# EAGLE library part ADM213ARS (library DSDEagleLibrary)
RS232 to TTL level converter
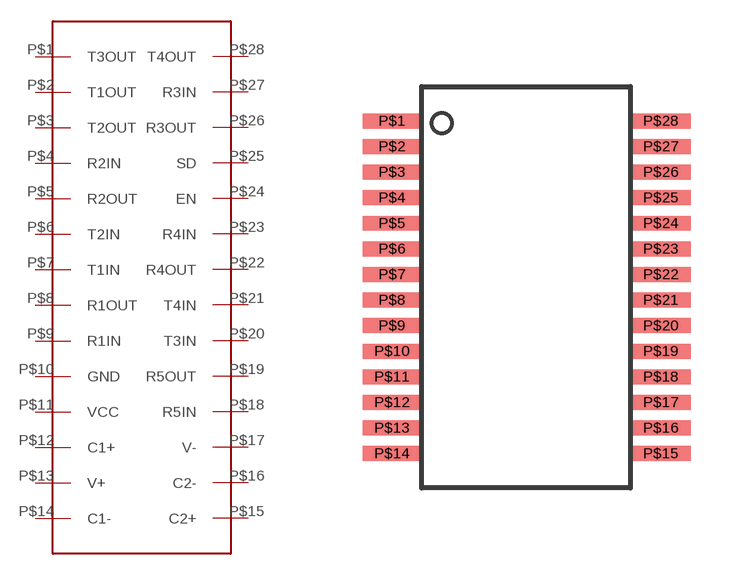
[diagram p62: symbol with the pads of SSOP-28-LD; footprint SSOP-28-LD]

Designator prefix U

## ADM213ARS  [SSOP-28-LD]
P$1  T3OUT
P$2  T1OUT
P$3  T2OUT
P$4  R2IN
P$5  R2OUT
P$6  T2IN
P$7  T1IN
P$8  R1OUT
P$9  R1IN
P$10  GND
P$11  VCC
P$12  C1+
P$13  V+
P$14  C1-
P$15  C2+
P$16  C2-
P$17  V-
P$18  R5IN
P$19  R5OUT
P$20  T3IN
P$21  T4IN
P$22  R4OUT
P$23  R4IN
P$24  EN
P$25  SD
P$26  R3OUT
P$27  R3IN
P$28  T4OUT

## Footprint SSOP-28-LD (pad centres in mm)
smd 1.5 x 0.38: P$1 -0.75,9.325; P$2 -0.75,8.675; P$3 -0.75,8.025; P$4 -0.75,7.375; P$5 -0.75,6.725; P$6 -0.75,6.075; P$7 -0.75,5.425; P$8 -0.75,4.775; P$9 -0.75,4.125; P$10 -0.75,3.475; P$11 -0.75,2.825; P$12 -0.75,2.175; P$13 -0.75,1.525; P$14 -0.75,0.875; P$15 6.075,0.875; P$16 6.075,1.525; P$17 6.075,2.175; P$18 6.075,2.825; P$19 6.075,3.475; P$20 6.075,4.124; P$21 6.075,4.775; P$22 6.075,5.425; P$23 6.075,6.075; P$24 6.075,6.725; P$25 6.075,7.375; P$26 6.075,8.025; P$27 6.075,8.675; P$28 6.075,9.325